# Altium footprint library Inductors SMD.PcbLib: 2 footprints
Each footprint in its own frame and in the unit in brackets; x right, y up, seen from the top. Pads: shape width x height; smd on the part's side, far side on the other; paste and mask are expansions set on the pad; w line width, h text height; cw(c..) or ccw(c..) is an arc to the next point about the centre after c.
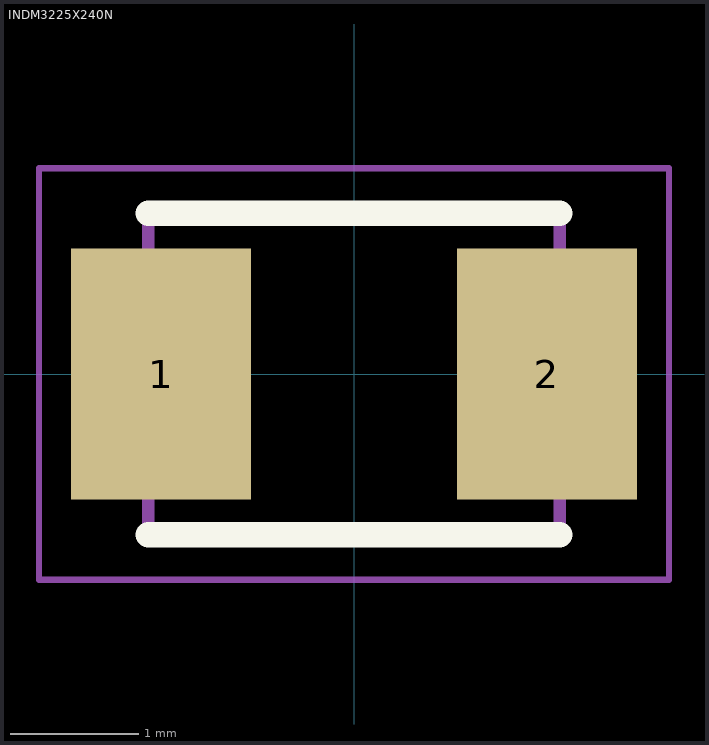
[diagram p0: the footprints below, top view; thin cyan lines are the x and y axes]

## INDM3225X240N [mm]
pads (2):
  rect 1.4x1.95 smd: 1(-1.5,0) 2(1.5,0)
Top Overlay:
  lines w0.2: -1.6,-1.25 1.6,-1.25 ; -1.6,1.25 1.6,1.25
Mechanical 13:
  lines w0.1: -1.6,-1.25 -1.6,1.25 1.6,1.25 1.6,-1.25 -1.6,-1.25
Mechanical 15:
  lines w0.05: -2.45,-1.6 -2.45,1.6 2.45,1.6 2.45,-1.6 -2.45,-1.6
3D body "NLCV32T-470K-EF.stp": height 2.4, standoff 0, extent -1.6,-1.25 1.6,1.25

## PCBComponent_1 [mm]